# Altium footprint library Wally_BMS.PcbLib: 23 footprints (part 1 of 2)
Each footprint in its own frame and in the unit in brackets; x right, y up, seen from the top. Pads: shape width x height; smd on the part's side, far side on the other; paste and mask are expansions set on the pad; w line width, h text height; cw(c..) or ccw(c..) is an arc to the next point about the centre after c.
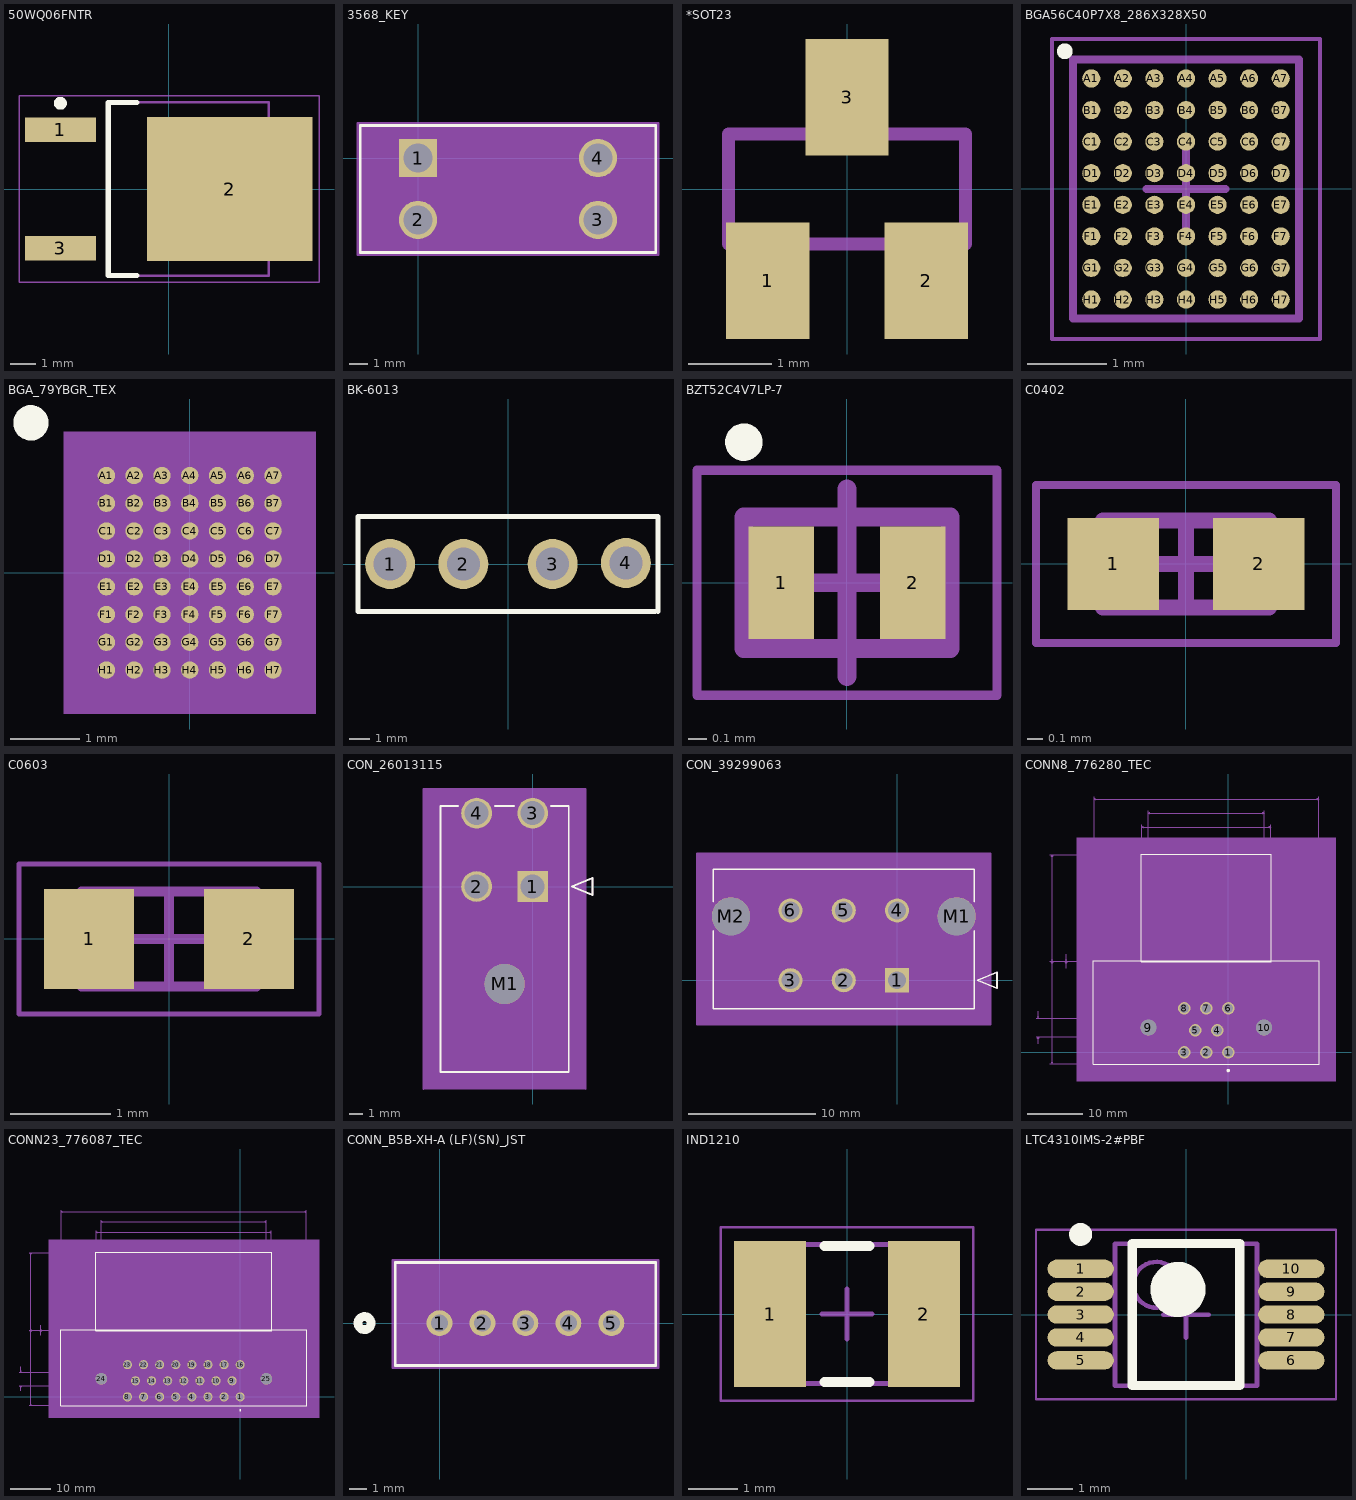
[diagram p0: the footprints below, top view; thin cyan lines are the x and y axes]

## 50WQ06FNTR [mm] "SCHOTTKY RECTIFIER 60V D-PAK"
height 2.4
pads (3):
  rect 2.75x0.95 smd: 1(-4.2,2.29) 3(-4.2,-2.29)
  rect 6.4x5.55 smd: 2(2.35,0)
Top Overlay:
  circle w0.25: c-4.2,3.315 r0.125
  lines w0.2: -1.25,-3.35 -2.35,-3.35 -2.35,3.35 -1.25,3.35
Mechanical 13:
  lines w0.1: -2.35,-3.35 -2.35,3.35 3.85,3.35 3.85,-3.35 -2.35,-3.35
Mechanical 15:
  lines w0.05: -5.8,-3.6 -5.8,3.6 5.8,3.6 5.8,-3.6 -5.8,-3.6
  lines w0.1: -0.5,0 0.5,0 ; 0,-0.5 0,0.5
3D body "50WQ06FNTR.step": height 2.86, standoff 0, extent -4.665,-3.35 5.385,3.35

## 3568_KEY [mil]
pads (4):
  rect 83x83 hole 63 mask+0: 1(0,0)
  round 83 hole 63 mask+0: 2(0,-134) 3(390,-134) 4(390,0)
Top Overlay:
  lines w6: -125,-204.5 -125,70.5 515,70.5 515,-204.5 -125,-204.5
Mechanical 13:
  lines w1: -120,-199.5 -120,65.5 510,65.5 510,-199.5 -120,-199.5
Mechanical 15:
  region: 520,-209.5 -130,-209.5 -130,75.5 520,75.5
  lines w6: -130,-209.5 520,-209.5 520,75.5 -130,75.5 -130,-209.5
3D body: height 10, standoff 0, extent 0,0 10,10

## *SOT23 [mm]
pads (3):
  rect 1x1.4 smd: 1(-0.95,-1.1) 2(0.95,-1.1) 3(0,1.1)
Mechanical 4:
  region: -1.17,-0.711 -0.711,-0.711 -0.711,-1.297 -1.17,-1.297
  region: 0.712,-0.711 1.168,-0.711 1.168,-1.297 0.712,-1.297
  region: -0.229,1.295 0.229,1.295 0.229,0.711 -0.229,0.711
  region: -1.17,-0.711 -0.711,-0.711 -0.711,-1.297 -1.17,-1.297
  region: 0.712,-0.711 1.168,-0.711 1.168,-1.297 0.712,-1.297
  region: -0.229,1.295 0.229,1.295 0.229,0.711 -0.229,0.711
  lines w0.152: -1.422,-0.66 -1.422,0.66 ; -1.422,-0.66 1.422,-0.66 ; -1.422,-0.66 -1.422,0.66 ; -1.422,-0.66 1.422,-0.66 ; -1.422,0.66 1.422,0.66 ; -1.422,0.66 1.422,0.66 ; 1.422,-0.66 1.422,0.66 ; 1.422,-0.66 1.422,0.66

## BGA56C40P7X8_286X328X50 [mm] "BGA, 56-Leads, Body 2.86x3.28mmx0.50mm, Pitch 0.40mm"
height 0.5
pads (56):
  round 0.23 smd mask+0.05: A1(-1.2,1.4) A2(-0.8,1.4) A3(-0.4,1.4) A4(0,1.4) A5(0.4,1.4) A6(0.8,1.4) A7(1.2,1.4) B1(-1.2,1) B2(-0.8,1) B3(-0.4,1) B4(0,1) B5(0.4,1) B6(0.8,1) B7(1.2,1) C1(-1.2,0.6) C2(-0.8,0.6) C3(-0.4,0.6) C4(0,0.6) C5(0.4,0.6) C6(0.8,0.6) C7(1.2,0.6) D1(-1.2,0.2) D2(-0.8,0.2) D3(-0.4,0.2) D4(0,0.2) D5(0.4,0.2) D6(0.8,0.2) D7(1.2,0.2) E1(-1.2,-0.2) E2(-0.8,-0.2) E3(-0.4,-0.2) E4(0,-0.2) E5(0.4,-0.2) E6(0.8,-0.2) E7(1.2,-0.2) F1(-1.2,-0.6) F2(-0.8,-0.6) F3(-0.4,-0.6) F4(0,-0.6) F5(0.4,-0.6) F6(0.8,-0.6) F7(1.2,-0.6) G1(-1.2,-1) G2(-0.8,-1) G3(-0.4,-1) G4(0,-1) G5(0.4,-1) G6(0.8,-1) G7(1.2,-1) H1(-1.2,-1.4) H2(-0.8,-1.4) H3(-0.4,-1.4) H4(0,-1.4) H5(0.4,-1.4) H6(0.8,-1.4) H7(1.2,-1.4)
Top Overlay:
  circle w0.1: c-1.535,1.745 r0.05
Mechanical 13:
  lines w0.1: -1.43,-1.64 -1.43,1.64 1.43,1.64 1.43,-1.64 -1.43,-1.64
Mechanical 15:
  lines w0.05: -1.7,-1.9 -1.7,1.9 1.7,1.9 1.7,-1.9 -1.7,-1.9
  lines w0.1: -0.5,0 0.5,0 ; 0,-0.5 0,0.5
3D body "BGA56C40P7X8_286X328X50.step": height 0.5, standoff 0, extent -1.43,-1.64 1.43,1.64

## BGA_79YBGR_TEX [mm]
pads (56):
  round 0.25 smd paste+0 mask+0: A1(-1.2,1.4) A2(-0.8,1.4) A3(-0.4,1.4) A4(0,1.4) A5(0.4,1.4) A6(0.8,1.4) A7(1.2,1.4) B1(-1.2,1) B2(-0.8,1) B3(-0.4,1) B4(0,1) B5(0.4,1) B6(0.8,1) B7(1.2,1) C1(-1.2,0.6) C2(-0.8,0.6) C3(-0.4,0.6) C4(0,0.6) C5(0.4,0.6) C6(0.8,0.6) C7(1.2,0.6) D1(-1.2,0.2) D2(-0.8,0.2) D3(-0.4,0.2) D4(0,0.2) D5(0.4,0.2) D6(0.8,0.2) D7(1.2,0.2) E1(-1.2,-0.2) E2(-0.8,-0.2) E3(-0.4,-0.2) E4(0,-0.2) E5(0.4,-0.2) E6(0.8,-0.2) E7(1.2,-0.2) F1(-1.2,-0.6) F2(-0.8,-0.6) F3(-0.4,-0.6) F4(0,-0.6) F5(0.4,-0.6) F6(0.8,-0.6) F7(1.2,-0.6) G1(-1.2,-1) G2(-0.8,-1) G3(-0.4,-1) G4(0,-1) G5(0.4,-1) G6(0.8,-1) G7(1.2,-1) H1(-1.2,-1.4) H2(-0.8,-1.4) H3(-0.4,-1.4) H4(0,-1.4) H5(0.4,-1.4) H6(0.8,-1.4) H7(1.2,-1.4)
Top Overlay:
  circle w0.254: c-2.286,2.159 r0.127
Mechanical 5:
  region: 1.816,-2.032 -1.816,-2.032 -1.816,2.032 1.816,2.032
Mechanical 13:
  lines w0.025: -1.435,1.451 -1.235,1.651 ; -1.435,-1.651 1.435,-1.651 1.435,1.651 -1.435,1.651 -1.435,-1.651
Mechanical 15:
  region: 1.689,-1.905 -1.689,-1.905 -1.689,1.905 1.689,1.905
  lines w0.152: -1.689,-1.905 -1.689,1.905 1.689,1.905 1.689,-1.905 -1.689,-1.905
3D body "BGA_79YBGR_TEX.step": height 0.51, standoff 0, extent -1.435,-1.651 1.435,1.651

## BK-6013 [mm] "FUSE HOLDER BLADE PCB"
height 5
pads (4):
  round 2.5 hole 1.65: 1(-5.895,0) 2(-2.235,0) 3(2.235,0) 4(5.895,0.051)
Top Overlay:
  lines w0.254: -7.5,-2.375 -7.5,2.375 ; -7.442,-2.375 7.35,-2.375 ; -7.442,2.375 7.5,2.375 7.5,-2.375
3D body: height 9, standoff 0, extent -7.5,-2.375 7.5,2.375

## BZT52C4V7LP-7 [mm] "DIODE ZENER 4.7V 250MW 2DFN"
height 0.53
pads (2):
  rect 0.35x0.6 smd: 1(-0.35,0) 2(0.35,0)
Top Overlay:
  circle w0.1: c-0.55,0.75 r0.05
Mechanical 13:
  lines w0.1: -0.55,-0.35 -0.55,0.35 0.55,0.35 0.55,-0.35 -0.55,-0.35
Mechanical 15:
  lines w0.05: -0.8,-0.6 -0.8,0.6 0.8,0.6 0.8,-0.6 -0.8,-0.6
  lines w0.1: -0.5,0 0.5,0 ; 0,-0.5 0,0.5
3D body "BZT52C4V7LP-7.step": height 0.53, standoff 0, extent -0.55,-0.35 0.55,0.35

## C0402 [mm] "Chip Capacitor, 2-Leads, Body 1.00x0.50mm, IPC Medium Density"
height 0.3
pads (2):
  rect 0.58x0.58 smd: 1(-0.46,0) 2(0.46,0)
Mechanical 13:
  lines w0.1: -0.525,-0.275 -0.525,0.275 0.525,0.275 0.525,-0.275 -0.525,-0.275
Mechanical 15:
  lines w0.05: -0.95,-0.5 -0.95,0.5 0.95,0.5 0.95,-0.5 -0.95,-0.5
  lines w0.1: -0.275,0 0.275,0 ; 0,-0.275 0,0.275
3D body "C0402.step": height 0.3, standoff 0, extent -0.525,-0.275 0.525,0.275

## C0603 [mm] "Chip Capacitor, 2-Leads, Body 1.60x0.80mm, IPC Medium Density"
height 0.6
pads (2):
  rect 0.9x1 smd: 1(-0.8,0) 2(0.8,0)
Mechanical 13:
  lines w0.1: -0.875,-0.475 -0.875,0.475 0.875,0.475 0.875,-0.475 -0.875,-0.475
Mechanical 15:
  lines w0.05: -1.5,-0.75 -1.5,0.75 1.5,0.75 1.5,-0.75 -1.5,-0.75
  lines w0.1: -0.475,0 0.475,0 ; 0,-0.475 0,0.475
3D body "C0603-1.step": height 0.6, standoff 0, extent -0.875,-0.475 0.875,0.475

## CON_26013115 [mm]
pads (5):
  rect 2.3x2.3 hole 1.8 mask+0.076: 1(0,0)
  round 2.3 hole 1.8 mask+0.076: 2(-4.2,0) 3(0,5.5) 4(-4.2,5.5)
  round 3 hole 3 unplated mask+0.076: M1(-2.1,-7.3)
Top Overlay:
  lines w0.127: -5.569,6.035 -6.9,6.035 -6.9,-13.9 2.7,-13.9 2.7,6.035 1.369,6.035 ; -2.831,6.035 -1.369,6.035 ; 2.954,0 4.478,0.635 4.478,-0.635 2.954,0
Mechanical 13:
  lines w0.127: -6.9,-13.9 2.7,-13.9 2.7,6.035 -6.9,6.035 -6.9,-13.9 ; 2.954,0 4.478,0.635 4.478,-0.635 2.954,0
Mechanical 15:
  region: 3.97,7.305 -8.17,7.305 -8.17,-15.17 3.97,-15.17
  lines w0.127: -8.17,-15.17 -8.17,7.305 3.97,7.305 3.97,-15.17
3D body: height 0.25, standoff 0, extent 0,0 0.254,0.254
3D body "026013115.stp": height 11.4, standoff -3.6, extent -7.1,-13.867 2.9,6.067

## CON_39299063 [mm]
pads (8):
  rect 1.9x1.9 hole 1.4 mask+0.076: 1(0,0)
  round 1.9 hole 1.4 mask+0.076: 2(-4.2,0) 3(-8.4,0) 4(0,5.5) 5(-4.2,5.5) 6(-8.4,5.5)
  round 3 hole 3 unplated mask+0.076: M1(4.7,5.04) M2(-13.1,5.04)
Top Overlay:
  lines w0.127: -14.5,3.877 -14.5,-2.25 6.1,-2.25 6.1,3.877 ; -14.5,6.203 -14.5,8.75 6.1,8.75 6.1,6.203 ; 6.354,0 7.878,-0.635 7.878,0.635 6.354,0
Mechanical 13:
  lines w0.127: -14.5,-2.25 -14.5,8.75 6.1,8.75 6.1,-2.25 -14.5,-2.25 ; 6.354,0 7.878,-0.635 7.878,0.635 6.354,0
Mechanical 15:
  region: 7.37,10.02 -15.77,10.02 -15.77,-3.52 7.37,-3.52
  lines w0.127: -15.77,-3.52 7.37,-3.52 7.37,10.02 -15.77,10.02 -15.77,-3.52
3D body "039299063.stp": height 12.8, standoff -3.5, extent -14.48,-2.26 6.098,8.74
3D body: height 0.25, standoff 0, extent 0,0 0.254,0.254

## CONN8_776280_TEC [mil]
pads (10):
  round 89 hole 69 mask+0: 1(0,0) 2(-157.48,0) 3(-314.96,0) 4(-78.74,157.48) 5(-236.22,157.48) 6(0,314.96) 7(-157.48,314.96) 8(-314.96,314.96)
  round 112 hole 112 unplated: 9(-570.87,177.17) 10(255.91,177.17)
Top Overlay:
  circle w10: c0,-130.43 r7
  lines w6: -965.48,-85.43 -965.48,656.57 650.52,656.57 650.52,-85.43 -965.48,-85.43 ; -622.98,646.57 -622.98,1416.57 308.02,1416.57 308.02,646.57 -622.98,646.57
Mechanical 5:
  region: -1085.48,1536.57 770.52,1536.57 770.52,-205.43 -1085.48,-205.43
Mechanical 7:
  lines w1: -1375.48,111.17 -570.87,111.17 ; -1375.48,243.17 -570.87,243.17 ; -1360.48,61.17 -1360.48,111.17 ; -1360.48,293.17 -1360.48,243.17 ; -1275.48,-80.43 -960.48,-80.43 -960.48,1826.57 ; -1275.48,1411.57 -960.48,1411.57 ; -1160.48,601.57 -1160.48,651.57 ; -1160.48,701.57 -1160.48,651.57 ; -1075.48,177.17 -570.87,177.17 -570.87,1726.57 ; -1075.48,651.57 -960.48,651.57 ; -617.98,1411.57 -617.98,1626.57 ; -314.96,1526.57 -314.96,651.57 -1175.48,651.57 -236.22,651.57 ; -157.48,651.57 -157.48,1526.57 ; 255.91,177.17 255.91,1726.57 ; 303.02,1411.57 303.02,1626.57 ; 645.52,-80.43 645.52,1826.57 ; -1360.48,111.17 -1355.48,101.17 -1365.48,101.17 -1360.48,111.17 ; -1360.48,243.17 -1355.48,253.17 -1365.48,253.17 -1360.48,243.17 ; -1260.48,-80.43 -1255.48,-70.43 -1265.48,-70.43 -1260.48,-80.43 ; -1260.48,-80.43 -1260.48,651.57 ; -1260.48,651.57 -1255.48,661.57 -1265.48,661.57 -1260.48,651.57 ; -1260.48,651.57 -1260.48,1411.57 ; -1260.48,651.57 -1255.48,641.57 -1265.48,641.57 -1260.48,651.57 ; -1260.48,1411.57 -1255.48,1401.57 -1265.48,1401.57 -1260.48,1411.57 ; -1160.48,651.57 -1155.48,641.57 -1165.48,641.57 -1160.48,651.57 ; -1160.48,651.57 -1155.48,661.57 -1165.48,661.57 -1160.48,651.57 ; -1060.48,177.17 -1055.48,187.17 -1065.48,187.17 -1060.48,177.17 ; -1060.48,177.17 -1060.48,651.57 ; -1060.48,651.57 -1055.48,641.57 -1065.48,641.57 -1060.48,651.57 ; -960.48,651.57 -1275.48,651.57 -960.48,651.57 ; -960.48,1811.57 -950.48,1806.57 -950.48,1816.57 -960.48,1811.57 ; -960.48,1811.57 645.52,1811.57 ; -617.98,1611.57 -607.98,1606.57 -607.98,1616.57 -617.98,1611.57 ; -617.98,1611.57 303.02,1611.57 ; -570.87,1711.57 -560.87,1706.57 -560.87,1716.57 -570.87,1711.57 ; -570.87,1711.57 255.91,1711.57 ; -314.96,1511.57 -304.96,1506.57 -304.96,1516.57 -314.96,1511.57 ; -314.96,1511.57 -157.48,1511.57 ; -157.48,1511.57 -167.48,1506.57 -167.48,1516.57 -157.48,1511.57 ; 255.91,1711.57 245.91,1706.57 245.91,1716.57 255.91,1711.57 ; 303.02,1611.57 293.02,1606.57 293.02,1616.57 303.02,1611.57 ; 645.52,1811.57 635.52,1806.57 635.52,1816.57 645.52,1811.57
  text "0.76in/19.304mm" at -1467.98,1019.07 h25
  text "0.732in/18.593mm" at -1480.48,401.87 h25
  text "0.474in/12.05mm" at -1267.98,401.87 h25
  text "0.132in/3.353mm" at -1567.98,164.67 h25
  text "0.157in/4mm" at -1317.98,639.07 h25
  text "1.606in/40.792mm" at -257.48,1831.57 h25
  text "0.827in/21mm" at -232.48,1731.57 h25
  text "0.921in/23.393mm" at -257.48,1631.57 h25
  text "0.157in/4mm" at -304.97,1531.57 h25
  text "Alt 2 padstyle: OX90Y60D30P" at -494.98,-530.43 h50
  text "Alt 1 padstyle: OX60Y90D30P" at -494.98,-430.43 h50
  text "Mounting hole padstyle: EX132Y132D112P" at -632.48,-330.43 h50
  text "Default Padstyle: EX89Y89D69P" at -519.98,-230.43 h50
Mechanical 13:
  lines w1: -25,-80.43 0,-130.43 25,-80.43 ; -960.48,-80.43 -960.48,651.57 645.52,651.57 645.52,-80.43 -960.48,-80.43 ; -617.98,651.57 -617.98,1411.57 303.02,1411.57 303.02,651.57 -617.98,651.57
Mechanical 15:
  region: 655.52,-90.43 655.52,1421.57 -970.48,1421.57 -970.48,-90.43
  lines w6: -970.48,-90.43 655.52,-90.43 655.52,1421.57 -970.48,1421.57 -970.48,-90.43
3D body: height 10, standoff 0, extent 0,0 10,10

## CONN23_776087_TEC [mil]
pads (25):
  round 89 hole 69 mask+0: 1(0,0) 2(-157.48,0) 3(-314.96,0) 4(-472.44,0) 5(-629.92,0) 6(-787.4,0) 7(-944.88,0) 8(-1102.36,0) 9(-78.74,157.48) 10(-236.22,157.48) 11(-393.7,157.48) 12(-551.18,157.48) 13(-708.66,157.48) 14(-866.14,157.48) 15(-1023.62,157.48) 16(0,314.96) 17(-157.48,314.96) 18(-314.96,314.96) 19(-472.44,314.96) 20(-629.92,314.96) 21(-787.4,314.96) 22(-944.88,314.96) 23(-1102.36,314.96)
  round 112 hole 112 unplated: 24(-1358.27,177.16) 25(255.91,177.16)
Top Overlay:
  circle w10: c0,-130.43 r6
  lines w6: -1753.18,-85.43 -1753.18,656.57 650.82,656.57 650.82,-85.43 -1753.18,-85.43 ; -1410.68,646.57 -1410.68,1416.57 308.32,1416.57 308.32,646.57 -1410.68,646.57
Mechanical 5:
  region: -1873.18,1536.57 770.82,1536.57 770.82,-205.43 -1873.18,-205.43
Mechanical 7:
  lines w1: -2163.18,111.16 -1358.27,111.16 ; -2163.18,243.16 -1358.27,243.16 ; -2148.18,61.16 -2148.18,111.16 ; -2148.18,293.16 -2148.18,243.16 ; -2063.18,-80.43 -1748.18,-80.43 -1748.18,1826.57 ; -2063.18,1411.57 -1748.18,1411.57 ; -1948.18,601.57 -1948.18,651.57 ; -1948.18,701.57 -1948.18,651.57 ; -1863.18,177.16 -1358.27,177.16 -1358.27,1726.57 ; -1863.18,651.57 -1748.18,651.57 ; -1405.68,1411.57 -1405.68,1626.57 ; -1102.36,1526.57 -1102.36,651.57 -1963.18,651.57 -1023.62,651.57 ; -944.88,651.57 -944.88,1526.57 ; 255.91,177.16 255.91,1726.57 ; 303.32,1411.57 303.32,1626.57 ; 645.82,-80.43 645.82,1826.57 ; -2148.18,111.16 -2143.18,101.16 -2153.18,101.16 -2148.18,111.16 ; -2148.18,243.16 -2143.18,253.16 -2153.18,253.16 -2148.18,243.16 ; -2048.18,-80.43 -2043.18,-70.43 -2053.18,-70.43 -2048.18,-80.43 ; -2048.18,-80.43 -2048.18,651.57 ; -2048.18,651.57 -2043.18,661.57 -2053.18,661.57 -2048.18,651.57 ; -2048.18,651.57 -2048.18,1411.57 ; -2048.18,651.57 -2043.18,641.57 -2053.18,641.57 -2048.18,651.57 ; -2048.18,1411.57 -2043.18,1401.57 -2053.18,1401.57 -2048.18,1411.57 ; -1948.18,651.57 -1943.18,641.57 -1953.18,641.57 -1948.18,651.57 ; -1948.18,651.57 -1943.18,661.57 -1953.18,661.57 -1948.18,651.57 ; -1848.18,177.16 -1843.18,187.16 -1853.18,187.16 -1848.18,177.16 ; -1848.18,177.16 -1848.18,651.57 ; -1848.18,651.57 -1843.18,641.57 -1853.18,641.57 -1848.18,651.57 ; -1748.18,651.57 -2063.18,651.57 -1748.18,651.57 ; -1748.18,1811.57 -1738.18,1806.57 -1738.18,1816.57 -1748.18,1811.57 ; -1748.18,1811.57 645.82,1811.57 ; -1405.68,1611.57 -1395.68,1606.57 -1395.68,1616.57 -1405.68,1611.57 ; -1405.68,1611.57 303.32,1611.57 ; -1358.27,1711.57 -1348.27,1706.57 -1348.27,1716.57 -1358.27,1711.57 ; -1358.27,1711.57 255.91,1711.57 ; -1102.36,1511.57 -1092.36,1506.57 -1092.36,1516.57 -1102.36,1511.57 ; -1102.36,1511.57 -944.88,1511.57 ; -944.88,1511.57 -954.88,1506.57 -954.88,1516.57 -944.88,1511.57 ; 255.91,1711.57 245.91,1706.57 245.91,1716.57 255.91,1711.57 ; 303.32,1611.57 293.32,1606.57 293.32,1616.57 303.32,1611.57 ; 645.82,1811.57 635.82,1806.57 635.82,1816.57 645.82,1811.57
  text "0.76in/19.304mm" at -2255.68,1019.07 h25
  text "0.732in/18.593mm" at -2268.18,401.87 h25
  text "0.474in/12.05mm" at -2055.68,401.87 h25
  text "0.132in/3.353mm" at -2355.68,164.66 h25
  text "0.157in/4mm" at -2105.68,639.07 h25
  text "2.394in/60.808mm" at -651.18,1831.57 h25
  text "1.614in/41mm" at -626.18,1731.57 h25
  text "1.709in/43.409mm" at -651.18,1631.57 h25
  text "0.157in/4mm" at -1092.37,1531.57 h25
  text "Alt 2 padstyle: OX90Y60D30P" at -888.68,-530.43 h50
  text "Alt 1 padstyle: OX60Y90D30P" at -888.68,-430.43 h50
  text "Mounting hole padstyle: EX132Y132D112P" at -1026.18,-330.43 h50
  text "Default Padstyle: EX89Y89D69P" at -913.68,-230.43 h50
Mechanical 13:
  lines w1: -25,-80.43 0,-130.43 25,-80.43 ; -1748.18,-80.43 -1748.18,651.57 645.82,651.57 645.82,-80.43 -1748.18,-80.43 ; -1405.68,651.57 -1405.68,1411.57 303.32,1411.57 303.32,651.57 -1405.68,651.57
  text "1" at 86.32,-23.43 h50
  text "8" at -1213.68,-23.43 h50
  text "23" at -1226.18,301.57 h50
  text "16" at 73.82,301.57 h50
Mechanical 15:
  region: 655.82,-90.43 655.82,1421.57 -1758.18,1421.57 -1758.18,-90.43
  lines w6: -1758.18,-90.43 655.82,-90.43 655.82,1421.57 -1758.18,1421.57 -1758.18,-90.43
3D body: height 10, standoff 0, extent 0,0 10,10

## CONN_B5B-XH-A (LF)(SN)_JST [mil]
pads (5):
  round 59 hole 39 mask+0: 1(0,0) 2(98.43,0) 3(196.86,0) 4(295.29,0) 5(393.72,0)
Top Overlay:
  circle w20: c-171.64,0 r15
  lines w6: -101.64,-97.14 495.36,-97.14 495.36,138.86 -101.64,138.86 -101.64,-97.14
Bottom Overlay:
  circle w20: c-171.64,0 r15
Mechanical 13:
  circle w20: c0,-75 r15
  lines w1: -96.64,-92.14 490.36,-92.14 490.36,133.86 -96.64,133.86 -96.64,-92.14
Mechanical 15:
  region: 500.36,143.86 -106.64,143.86 -106.64,-102.14 500.36,-102.14
  lines w6: -106.64,-102.14 -106.64,143.86 500.36,143.86 500.36,-102.14 -106.64,-102.14
3D body: height 10, standoff 0, extent 0,0 10,10

## IND1210 [mm]
height 0.5
pads (2):
  rect 1.45x2.95 smd: 1(-1.55,0) 2(1.55,0)
Top Overlay:
  lines w0.2: -0.45,-1.375 0.45,-1.375 ; -0.45,1.375 0.45,1.375
Mechanical 13:
  lines w0.1: -1.85,-1.4 -1.85,1.4 1.85,1.4 1.85,-1.4 -1.85,-1.4
Mechanical 15:
  lines w0.05: -2.55,-1.75 -2.55,1.75 2.55,1.75 2.55,-1.75 -2.55,-1.75
  lines w0.1: -0.5,0 0.5,0 ; 0,-0.5 0,0.5
3D body "IND1210.step": height 0.5, standoff 0, extent -1.85,-1.4 1.85,1.4

## LTC4310IMS-2#PBF [mm] "DIGITAL ISOLATOR 2CH I2C 10MSOP"
height 1.2
pads (10):
  oval 1.45x0.4 smd mask+0.03: 1(-2.3,1) 2(-2.3,0.5) 3(-2.3,0) 4(-2.3,-0.5) 5(-2.3,-1) 6(2.3,-1) 7(2.3,-0.5) 8(2.3,0) 9(2.3,0.5) 10(2.3,1)
Top Overlay:
  circle w0.25: c-2.3,1.75 r0.125
  circle w0.6: c-0.175,0.55 r0.3
  lines w0.2: -1.175,-1.55 -1.175,1.55 1.175,1.55 1.175,-1.55 -1.175,-1.55
Mechanical 13:
  circle w0.1: c-0.65,0.65 r0.5
  lines w0.1: -1.55,-1.55 -1.55,1.55 1.55,1.55 1.55,-1.55 -1.55,-1.55
Mechanical 15:
  lines w0.05: -3.275,-1.85 -3.275,1.85 3.275,1.85 3.275,-1.85 -3.275,-1.85
  lines w0.1: -0.5,0 0.5,0 ; 0,-0.5 0,0.5
3D body "LTC4310IMS-2#PB.step": height 1.2, standoff 0, extent -2.615,-1.55 2.615,1.55